# Altium schematic symbol library ESDA-WY.Schlib: 1 symbol
Pins are listed as number, name and electrical type; pins without a type are passive.

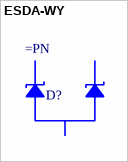
[diagram p0: symbol ESDA-WY]

## ESDA-WY
designator D?
Unidirectional TVS Diode
pins: 1, 2, 3